# Altium integrated library TI_Logic_Specialty_Logic.IntLib: 2504 symbols (part 43 of 81)
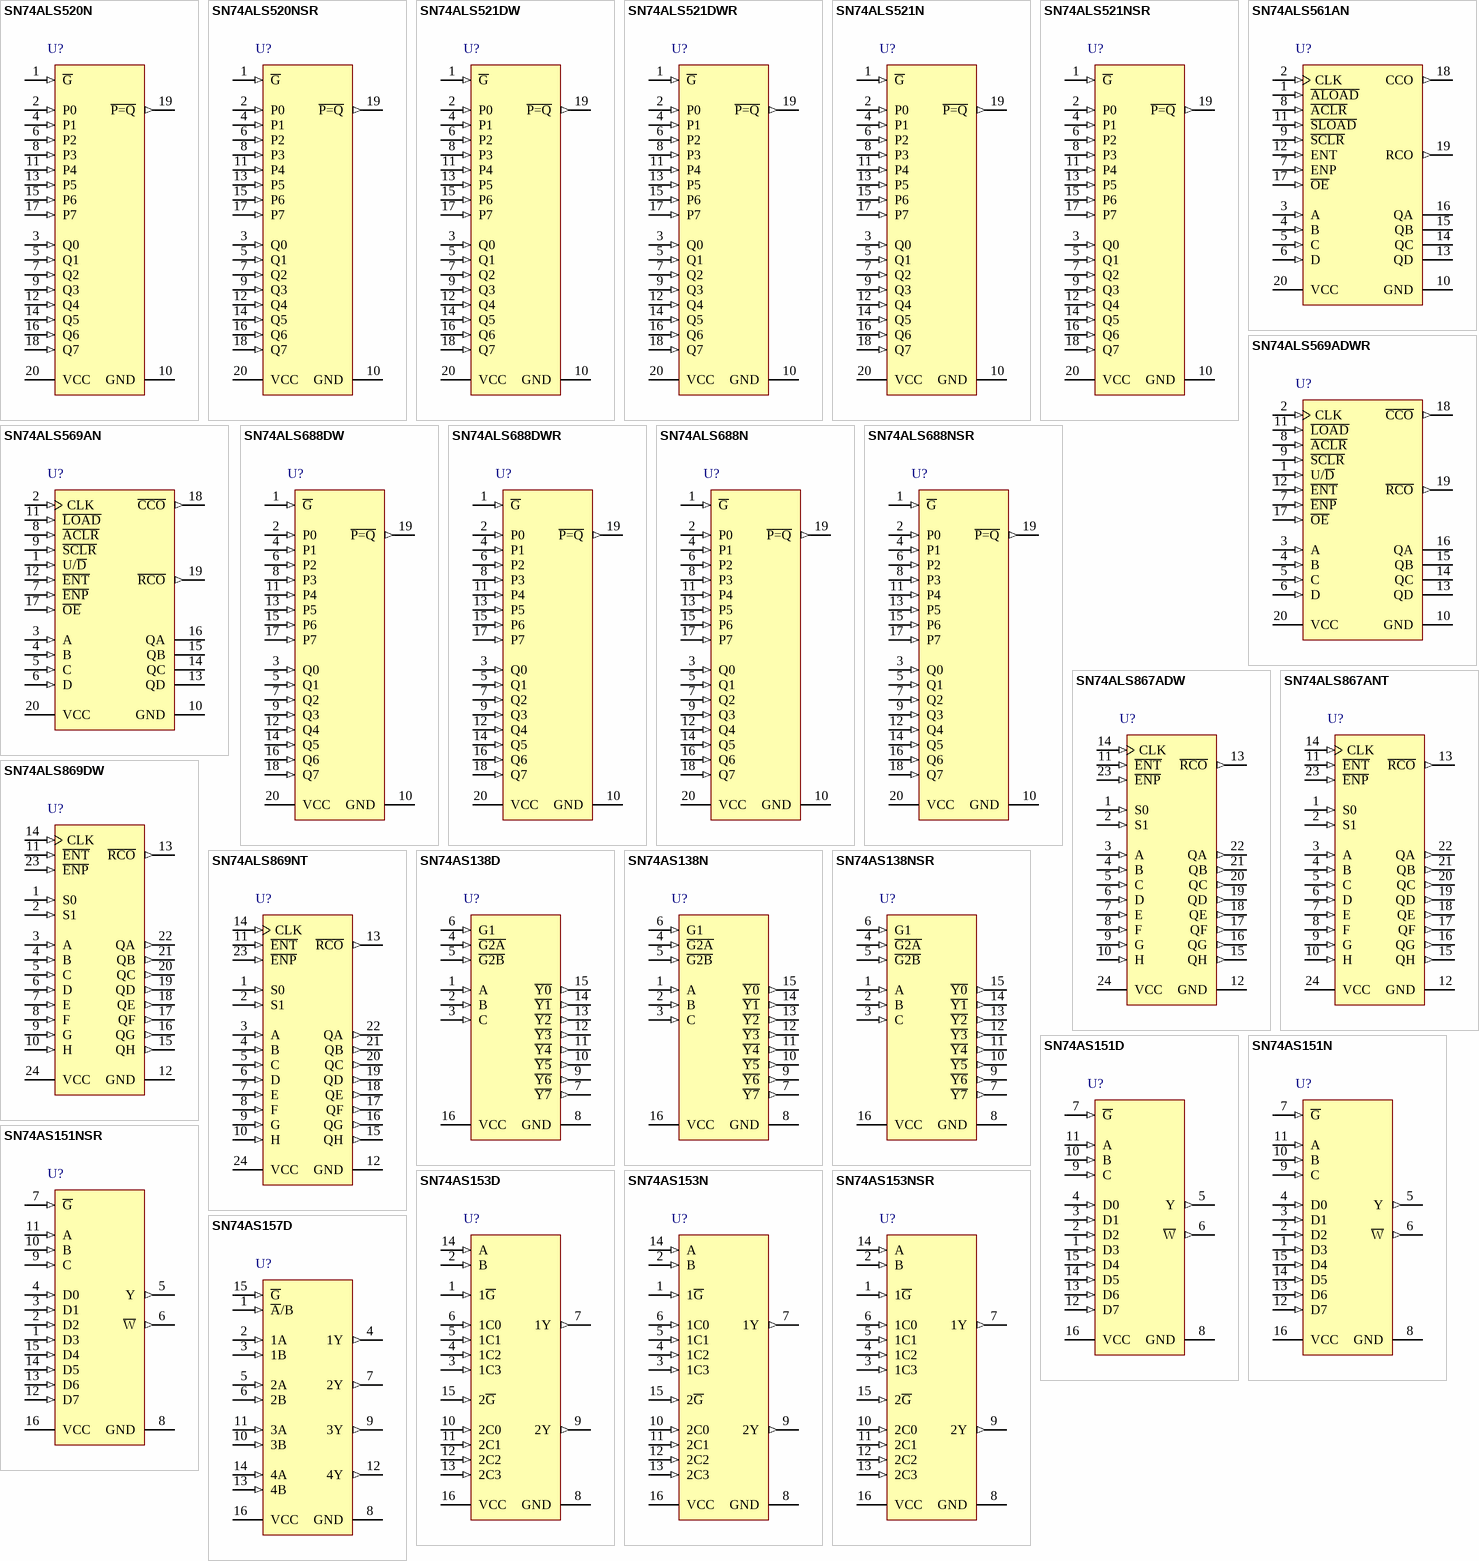
[diagram p146: symbols SN74ALS520N to SN74AS157D]

## SN74ALS688DW
designator U?
8-Bit Identity/Magnitude Comparators (P=Q) with Enable, DW0020A, TUBE; Generic Part Number: SN74ALS688; Manufacturer: Texas Instruments; PartNumber: SN74ALS688DW; VCC(Min)(V): 4.5; VCC(Max)(V): 5.5; Output Type: TTL; ICC @ Nom Voltage(Max)(mA): 19; Bits(#): 8; F @ Nom Voltage(Max)(Mhz): 75; Rating: Catalog; Technology Family: ALS; Schmitt Trigger: No; Output Drive (IOL/IOH)(Max)(mA): 24/-2.6; tpd @ Nom Voltage(Max)(ns): 22; DatasheetVersion: SDAS228A; PackageReference: DW0020A; Supplier 1: Mouser; Supplier Part Number 1: 595-SN74ALS688DW; Supplier 2: Digi-Key; Supplier Part Number 2: 296-5082-5-ND; Input Type: TTL; Operating Temperature Range(C): 0 to 70; Voltage(Nom)(V): 5.5; ComponentLink1Description: Manufacturer URL; ComponentLink1URL: http://www.ti.com/; ComponentLink2Description: Datasheet; ComponentLink2URL: http://www.ti.com/lit/ds/symlink/sn74als688.pdf
footprint DW0020A_N (SOIC, 20-Leads, Body 13x7.6mm, Pitch 1.27mm, IPC Medium Density)
footprint DW0020A_M (SOIC, 20-Leads, Body 13x7.6mm, Pitch 1.27mm, IPC Low Density)
footprint DW0020A_L (SOIC, 20-Leads, Body 13x7.6mm, Pitch 1.27mm, IPC High Density)
pins: 1 ~{G} (in), 2 P0 (in), 3 Q0 (in), 4 P1 (in), 5 Q1 (in), 6 P2 (in), 7 Q2 (in), 8 P3 (in), 9 Q3 (in), 10 GND (power), 11 P4 (in), 12 Q4 (in), 13 P5 (in), 14 Q5 (in), 15 P6 (in), 16 Q6 (in), 17 P7 (in), 18 Q7 (in), 19 ~{P=Q} (out), 20 VCC (power)

## SN74ALS688DWR
designator U?
8-Bit Identity/Magnitude Comparators (P=Q) with Enable, DW0020A, LARGE T&R; Generic Part Number: SN74ALS688; Manufacturer: Texas Instruments; PartNumber: SN74ALS688DWR; VCC(Min)(V): 4.5; VCC(Max)(V): 5.5; Output Type: TTL; ICC @ Nom Voltage(Max)(mA): 19; Bits(#): 8; F @ Nom Voltage(Max)(Mhz): 75; Rating: Catalog; Technology Family: ALS; Schmitt Trigger: No; Output Drive (IOL/IOH)(Max)(mA): 24/-2.6; tpd @ Nom Voltage(Max)(ns): 22; DatasheetVersion: SDAS228A; PackageReference: DW0020A; Supplier 1: Mouser; Supplier Part Number 1: 595-SN74ALS688DWR; Supplier 2: Digi-Key; Supplier Part Number 2: 296-5082-2-ND; Supplier 3: Digi-Key; Supplier Part Number 3: 296-5082-1-ND; Input Type: TTL; Operating Temperature Range(C): 0 to 70; Voltage(Nom)(V): 5.5; ComponentLink1Description: Manufacturer URL; ComponentLink1URL: http://www.ti.com/; ComponentLink2Description: Datasheet; ComponentLink2URL: http://www.ti.com/lit/ds/symlink/sn74als688.pdf
footprint DW0020A_N (SOIC, 20-Leads, Body 13x7.6mm, Pitch 1.27mm, IPC Medium Density)
footprint DW0020A_M (SOIC, 20-Leads, Body 13x7.6mm, Pitch 1.27mm, IPC Low Density)
footprint DW0020A_L (SOIC, 20-Leads, Body 13x7.6mm, Pitch 1.27mm, IPC High Density)
pins: 1 ~{G} (in), 2 P0 (in), 3 Q0 (in), 4 P1 (in), 5 Q1 (in), 6 P2 (in), 7 Q2 (in), 8 P3 (in), 9 Q3 (in), 10 GND (power), 11 P4 (in), 12 Q4 (in), 13 P5 (in), 14 Q5 (in), 15 P6 (in), 16 Q6 (in), 17 P7 (in), 18 Q7 (in), 19 ~{P=Q} (out), 20 VCC (power)

## SN74ALS688N
designator U?
8-Bit Identity/Magnitude Comparators (P=Q) with Enable, N0020A, TUBE; Generic Part Number: SN74ALS688; Manufacturer: Texas Instruments; PartNumber: SN74ALS688N; VCC(Min)(V): 4.5; VCC(Max)(V): 5.5; Output Type: TTL; ICC @ Nom Voltage(Max)(mA): 19; Bits(#): 8; F @ Nom Voltage(Max)(Mhz): 75; Rating: Catalog; Technology Family: ALS; Schmitt Trigger: No; Output Drive (IOL/IOH)(Max)(mA): 24/-2.6; tpd @ Nom Voltage(Max)(ns): 22; DatasheetVersion: SDAS228A; PackageReference: N0020A; Supplier 1: Mouser; Supplier Part Number 1: 595-SN74ALS688N; Supplier 2: Digi-Key; Supplier Part Number 2: 296-14748-5-ND; Input Type: TTL; Operating Temperature Range(C): 0 to 70; Voltage(Nom)(V): 5.5; ComponentLink1Description: Manufacturer URL; ComponentLink1URL: http://www.ti.com/; ComponentLink2Description: Datasheet; ComponentLink2URL: http://www.ti.com/lit/ds/symlink/sn74als688.pdf
footprint N0020A (DIP, 20-Leads, Body 26.9x6.6mm, Pitch 2.54mm)
pins: 1 ~{G} (in), 2 P0 (in), 3 Q0 (in), 4 P1 (in), 5 Q1 (in), 6 P2 (in), 7 Q2 (in), 8 P3 (in), 9 Q3 (in), 10 GND (power), 11 P4 (in), 12 Q4 (in), 13 P5 (in), 14 Q5 (in), 15 P6 (in), 16 Q6 (in), 17 P7 (in), 18 Q7 (in), 19 ~{P=Q} (out), 20 VCC (power)

## SN74ALS688NSR
designator U?
8-Bit Identity/Magnitude Comparators (P=Q) with Enable, NS0020A, LARGE T&R; Generic Part Number: SN74ALS688; Manufacturer: Texas Instruments; PartNumber: SN74ALS688NSR; VCC(Min)(V): 4.5; VCC(Max)(V): 5.5; Output Type: TTL; ICC @ Nom Voltage(Max)(mA): 19; Bits(#): 8; F @ Nom Voltage(Max)(Mhz): 75; Rating: Catalog; Technology Family: ALS; Schmitt Trigger: No; Output Drive (IOL/IOH)(Max)(mA): 24/-2.6; tpd @ Nom Voltage(Max)(ns): 22; DatasheetVersion: SDAS228A; PackageReference: NS0020A; Supplier 1: Mouser; Supplier Part Number 1: 595-SN74ALS688NSR; Supplier 2: Digi-Key; Supplier Part Number 2: 296-29909-2-ND; Supplier 3: Digi-Key; Supplier Part Number 3: 296-29909-1-ND; Supplier 4: Digi-Key; Supplier Part Number 4: 296-29909-6-ND; Input Type: TTL; Operating Temperature Range(C): 0 to 70; Voltage(Nom)(V): 5.5; ComponentLink1Description: Manufacturer URL; ComponentLink1URL: http://www.ti.com/; ComponentLink2Description: Datasheet; ComponentLink2URL: http://www.ti.com/lit/ds/symlink/sn74als688.pdf
footprint NS0020A_N (SOIC,20-Leads,Body 12.9x5.6mm,Pitch 1.27mm,IPC Medium Density)
footprint NS0020A_M (SOIC,20-Leads,Body 12.9x5.6mm,Pitch 1.27mm,IPC Low Density)
footprint NS0020A_L (SOIC,20-Leads,Body 12.9x5.6mm,Pitch 1.27mm,IPC High Density)
pins: 1 ~{G} (in), 2 P0 (in), 3 Q0 (in), 4 P1 (in), 5 Q1 (in), 6 P2 (in), 7 Q2 (in), 8 P3 (in), 9 Q3 (in), 10 GND (power), 11 P4 (in), 12 Q4 (in), 13 P5 (in), 14 Q5 (in), 15 P6 (in), 16 Q6 (in), 17 P7 (in), 18 Q7 (in), 19 ~{P=Q} (out), 20 VCC (power)

## SN74ALS867ADW
designator U?
Synchronous 8-Bit Up/Down Binary Counters, DW0024A, TUBE; Generic Part Number: SN74ALS867A; Manufacturer: Texas Instruments; PartNumber: SN74ALS867ADW; VCC(Min)(V): 4.5; VCC(Max)(V): 5.5; Output Type: CMOS; Inputs: 1; ICC @ Nom Voltage(Max)(mA): 45; Input Type: TTL; Bits(#): 8; F @ Nom Voltage(Max)(Mhz): 75; Rating: Catalog; Technology Family: ALS; Voltage(Nom)(V): 5; Schmitt Trigger: No; Output Drive (IOL/IOH)(Max)(mA): 8/-0.4; tpd @ Nom Voltage(Max)(ns): 16; DatasheetVersion: SDAS115C; PackageReference: DW0024A; Supplier 1: Mouser; Supplier Part Number 1: 595-SN74ALS867ADW; Supplier 2: Digi-Key; Supplier Part Number 2: 296-5088-5-ND; Function: Counter; Operating Temperature Range(C): 0 to 70; Type: Binary; Code_JEDEC: MS-013; ComponentLink1Description: Manufacturer URL; ComponentLink1URL: http://www.ti.com/; ComponentLink2Description: Datasheet; ComponentLink2URL: http://www.ti.com/lit/ds/symlink/sn74als867a.pdf; ComponentLink3Description: Package Specification; ComponentLink3URL: http://www.ti.com/lit/ml/mpds174a/mpds174a.pdf
footprint DW0024A_N (SOIC, 24-Leads, Body 15.6x7.6mm, Pitch 1.27mm, IPC Medium Density)
footprint DW0024A_M (SOIC, 24-Leads, Body 15.6x7.6mm, Pitch 1.27mm, IPC Low Density)
footprint DW0024A_L (SOIC, 24-Leads, Body 15.6x7.6mm, Pitch 1.27mm, IPC High Density)
pins: 1 S0 (in), 2 S1 (in), 3 A (in), 4 B (in), 5 C (in), 6 D (in), 7 E (in), 8 F (in), 9 G (in), 10 H (in), 11 ~{ENT} (in), 12 GND (power), 13 ~{RCO} (out), 14 CLK (in), 15 QH (out), 16 QG (out), 17 QF (out), 18 QE (out), 19 QD (out), 20 QC (out), 21 QB (out), 22 QA (out), 23 ~{ENP} (in), 24 VCC (power)

## SN74ALS867ANT
designator U?
Synchronous 8-Bit Up/Down Binary Counters, NT0024A, TUBE; Generic Part Number: SN74ALS867A; Manufacturer: Texas Instruments; PartNumber: SN74ALS867ANT; VCC(Min)(V): 4.5; VCC(Max)(V): 5.5; Output Type: CMOS; Inputs: 1; ICC @ Nom Voltage(Max)(mA): 45; Input Type: TTL; Bits(#): 8; F @ Nom Voltage(Max)(Mhz): 75; Rating: Catalog; Technology Family: ALS; Voltage(Nom)(V): 5; Schmitt Trigger: No; Output Drive (IOL/IOH)(Max)(mA): 8/-0.4; tpd @ Nom Voltage(Max)(ns): 16; DatasheetVersion: SDAS115C; PackageReference: NT0024A; Supplier 1: Mouser; Supplier Part Number 1: 595-SN74ALS867ANT; Supplier 2: Digi-Key; Supplier Part Number 2: 296-5089-5-ND; Function: Counter; Operating Temperature Range(C): 0 to 70; Type: Binary; ComponentLink1Description: Manufacturer URL; ComponentLink1URL: http://www.ti.com/; ComponentLink2Description: Datasheet; ComponentLink2URL: http://www.ti.com/lit/ds/symlink/sn74als867a.pdf; ComponentLink3Description: Package Specification; ComponentLink3URL: http://www.ti.com/lit/ml/mpdi004a/mpdi004a.pdf
footprint NT0024A (DIP, 24-Leads, Body 32.05x7.1mm, Pitch 2.54mm)
pins: 1 S0 (in), 2 S1 (in), 3 A (in), 4 B (in), 5 C (in), 6 D (in), 7 E (in), 8 F (in), 9 G (in), 10 H (in), 11 ~{ENT} (in), 12 GND (power), 13 ~{RCO} (out), 14 CLK (in), 15 QH (out), 16 QG (out), 17 QF (out), 18 QE (out), 19 QD (out), 20 QC (out), 21 QB (out), 22 QA (out), 23 ~{ENP} (in), 24 VCC (power)

## SN74ALS869DW
designator U?
Synchronous 8-Bit Up/Down Binary Counters, DW0024A, TUBE; Generic Part Number: SN74ALS869; Manufacturer: Texas Instruments; PartNumber: SN74ALS869DW; VCC(Min)(V): 4.5; VCC(Max)(V): 5.5; Output Type: CMOS; Inputs: 1; ICC @ Nom Voltage(Max)(mA): 45; Input Type: TTL; Bits(#): 8; F @ Nom Voltage(Max)(Mhz): 75; Rating: Catalog; Technology Family: ALS; Voltage(Nom)(V): 5; Schmitt Trigger: No; Output Drive (IOL/IOH)(Max)(mA): 8/-0.4; tpd @ Nom Voltage(Max)(ns): 16; DatasheetVersion: SDAS115C; PackageReference: DW0024A; Supplier 1: Mouser; Supplier Part Number 1: 595-SN74ALS869DW; Supplier 2: Digi-Key; Supplier Part Number 2: 296-5090-5-ND; Function: Counter; Operating Temperature Range(C): 0 to 70; Type: Binary; Code_JEDEC: MS-013; ComponentLink1Description: Manufacturer URL; ComponentLink1URL: http://www.ti.com/; ComponentLink2Description: Datasheet; ComponentLink2URL: http://www.ti.com/lit/ds/symlink/sn74als869.pdf; ComponentLink3Description: Package Specification; ComponentLink3URL: http://www.ti.com/lit/ml/mpds174a/mpds174a.pdf
footprint DW0024A_N (SOIC, 24-Leads, Body 15.6x7.6mm, Pitch 1.27mm, IPC Medium Density)
footprint DW0024A_M (SOIC, 24-Leads, Body 15.6x7.6mm, Pitch 1.27mm, IPC Low Density)
footprint DW0024A_L (SOIC, 24-Leads, Body 15.6x7.6mm, Pitch 1.27mm, IPC High Density)
pins: 1 S0 (in), 2 S1 (in), 3 A (in), 4 B (in), 5 C (in), 6 D (in), 7 E (in), 8 F (in), 9 G (in), 10 H (in), 11 ~{ENT} (in), 12 GND (power), 13 ~{RCO} (out), 14 CLK (in), 15 QH (out), 16 QG (out), 17 QF (out), 18 QE (out), 19 QD (out), 20 QC (out), 21 QB (out), 22 QA (out), 23 ~{ENP} (in), 24 VCC (power)

## SN74ALS869NT
designator U?
Synchronous 8-Bit Up/Down Binary Counters, NT0024A, TUBE; Generic Part Number: SN74ALS869; Manufacturer: Texas Instruments; PartNumber: SN74ALS869NT; VCC(Min)(V): 4.5; VCC(Max)(V): 5.5; Output Type: CMOS; Inputs: 1; ICC @ Nom Voltage(Max)(mA): 45; Input Type: TTL; Bits(#): 8; F @ Nom Voltage(Max)(Mhz): 75; Rating: Catalog; Technology Family: ALS; Voltage(Nom)(V): 5; Schmitt Trigger: No; Output Drive (IOL/IOH)(Max)(mA): 8/-0.4; tpd @ Nom Voltage(Max)(ns): 16; DatasheetVersion: SDAS115C; PackageReference: NT0024A; Supplier 1: Mouser; Supplier Part Number 1: 595-SN74ALS869NT; Supplier 2: Digi-Key; Supplier Part Number 2: 296-5091-5-ND; Function: Counter; Operating Temperature Range(C): 0 to 70; Type: Binary; ComponentLink1Description: Manufacturer URL; ComponentLink1URL: http://www.ti.com/; ComponentLink2Description: Datasheet; ComponentLink2URL: http://www.ti.com/lit/ds/symlink/sn74als869.pdf; ComponentLink3Description: Package Specification; ComponentLink3URL: http://www.ti.com/lit/ml/mpdi004a/mpdi004a.pdf
footprint NT0024A (DIP, 24-Leads, Body 32.05x7.1mm, Pitch 2.54mm)
pins: 1 S0 (in), 2 S1 (in), 3 A (in), 4 B (in), 5 C (in), 6 D (in), 7 E (in), 8 F (in), 9 G (in), 10 H (in), 11 ~{ENT} (in), 12 GND (power), 13 ~{RCO} (out), 14 CLK (in), 15 QH (out), 16 QG (out), 17 QF (out), 18 QE (out), 19 QD (out), 20 QC (out), 21 QB (out), 22 QA (out), 23 ~{ENP} (in), 24 VCC (power)

## SN74AS138D
designator U?
3-Line To 8-Line Decoders/Demultiplexers, D0016A, TUBE; Generic Part Number: SN74AS138; Manufacturer: Texas Instruments; PartNumber: SN74AS138D; VCC(Min)(V): 4.5; VCC(Max)(V): 5.5; Output Type: TTL; Function: Decoder/Demultiplexer; ICC @ Nom Voltage(Max)(mA): 20; Bits(#): 8; F @ Nom Voltage(Max)(Mhz): 125; Configuration: 3：8; Channels(#): 1; Rating: Catalog; Technology Family: AS; Voltage(Nom)(V): 5; Schmitt Trigger: No; Output Drive (IOL/IOH)(Max)(mA): 20/-2; tpd @ Nom Voltage(Max)(ns): 22; DatasheetVersion: SDAS055E; PackageReference: D0016A; Supplier 1: Mouser; Supplier Part Number 1: 595-SN74AS138D; Supplier 2: Digi-Key; Supplier Part Number 2: SN74AS138D-ND; Input Type: TTL; Operating Temperature Range(C): 0 to 70; Type: Standard; Code_JEDEC: MS-012 variation AC; ComponentLink1Description: Manufacturer URL; ComponentLink1URL: http://www.ti.com/; ComponentLink2Description: Datasheet; ComponentLink2URL: http://www.ti.com/lit/ds/symlink/sn74as138.pdf; ComponentLink3Description: Package Specification; ComponentLink3URL: http://www.ti.com/lit/ml/mpds178g/mpds178g.pdf
footprint D0016A_N (SOIC, 16-Leads, Body 10x4mm, Pitch 1.27mm, IPC Medium Density)
footprint D0016A_M (SOIC, 16-Leads, Body 10x4mm, Pitch 1.27mm, IPC Low Density)
footprint D0016A_L (SOIC, 16-Leads, Body 10x4mm, Pitch 1.27mm, IPC High Density)
pins: 1 A (in), 2 B (in), 3 C (in), 4 ~{G2A} (in), 5 ~{G2B} (in), 6 G1 (in), 7 ~{Y7} (out), 8 GND (power), 9 ~{Y6} (out), 10 ~{Y5} (out), 11 ~{Y4} (out), 12 ~{Y3} (out), 13 ~{Y2} (out), 14 ~{Y1} (out), 15 ~{Y0} (out), 16 VCC (power)

## SN74AS138N
designator U?
3-Line To 8-Line Decoders/Demultiplexers, N0016A, TUBE; Generic Part Number: SN74AS138; Manufacturer: Texas Instruments; PartNumber: SN74AS138N; VCC(Min)(V): 4.5; VCC(Max)(V): 5.5; Output Type: TTL; Function: Decoder/Demultiplexer; ICC @ Nom Voltage(Max)(mA): 20; Bits(#): 8; F @ Nom Voltage(Max)(Mhz): 125; Configuration: 3：8; Channels(#): 1; Rating: Catalog; Technology Family: AS; Voltage(Nom)(V): 5; Schmitt Trigger: No; Output Drive (IOL/IOH)(Max)(mA): 20/-2; tpd @ Nom Voltage(Max)(ns): 22; DatasheetVersion: SDAS055E; PackageReference: N0016A; Supplier 1: Mouser; Supplier Part Number 1: 595-SN74AS138N; Supplier 2: Digi-Key; Supplier Part Number 2: 296-14793-5-ND; Input Type: TTL; Operating Temperature Range(C): 0 to 70; Type: Standard; Code_JEDEC: MS-001; ComponentLink1Description: Manufacturer URL; ComponentLink1URL: http://www.ti.com/; ComponentLink2Description: Datasheet; ComponentLink2URL: http://www.ti.com/lit/ds/symlink/sn74as138.pdf; ComponentLink3Description: Package Specification; ComponentLink3URL: http://www.ti.com/lit/ml/mpdi002c/mpdi002c.pdf
footprint N0016A (DIP, 16-Leads, Body 19.7x6.6mm, Pitch 2.54mm)
pins: 1 A (in), 2 B (in), 3 C (in), 4 ~{G2A} (in), 5 ~{G2B} (in), 6 G1 (in), 7 ~{Y7} (out), 8 GND (power), 9 ~{Y6} (out), 10 ~{Y5} (out), 11 ~{Y4} (out), 12 ~{Y3} (out), 13 ~{Y2} (out), 14 ~{Y1} (out), 15 ~{Y0} (out), 16 VCC (power)

## SN74AS138NSR
designator U?
3-Line To 8-Line Decoders/Demultiplexers, NS0016A, LARGE T&R; Generic Part Number: SN74AS138; Manufacturer: Texas Instruments; PartNumber: SN74AS138NSR; VCC(Min)(V): 4.5; VCC(Max)(V): 5.5; Output Type: TTL; Function: Decoder/Demultiplexer; ICC @ Nom Voltage(Max)(mA): 20; Bits(#): 8; F @ Nom Voltage(Max)(Mhz): 125; Configuration: 3：8; Channels(#): 1; Rating: Catalog; Technology Family: AS; Voltage(Nom)(V): 5; Schmitt Trigger: No; Output Drive (IOL/IOH)(Max)(mA): 20/-2; tpd @ Nom Voltage(Max)(ns): 22; DatasheetVersion: SDAS055E; PackageReference: NS0016A; Supplier 1: Mouser; Supplier Part Number 1: 595-SN74AS138NSR; Supplier 2: Digi-Key; Supplier Part Number 2: 296-28800-2-ND; Supplier 3: Digi-Key; Supplier Part Number 3: 296-28800-1-ND; Supplier 4: Digi-Key; Supplier Part Number 4: 296-28800-6-ND; Input Type: TTL; Operating Temperature Range(C): 0 to 70; Type: Standard; ComponentLink1Description: Manufacturer URL; ComponentLink1URL: http://www.ti.com/; ComponentLink2Description: Datasheet; ComponentLink2URL: http://www.ti.com/lit/ds/symlink/sn74as138.pdf; ComponentLink3Description: Package Specification; ComponentLink3URL: http://www.ti.com/lit/ml/msop002a/msop002a.pdf
footprint NS0016A_N (SOIC,16-Leads,Body 10.5x5.6mm,Pitch 1.27mm,IPC Medium Density)
footprint NS0016A_M (SOIC,16-Leads,Body 10.5x5.6mm,Pitch 1.27mm,IPC Low Density)
footprint NS0016A_L (SOIC,16-Leads,Body 10.5x5.6mm,Pitch 1.27mm,IPC High Density)
pins: 1 A (in), 2 B (in), 3 C (in), 4 ~{G2A} (in), 5 ~{G2B} (in), 6 G1 (in), 7 ~{Y7} (out), 8 GND (power), 9 ~{Y6} (out), 10 ~{Y5} (out), 11 ~{Y4} (out), 12 ~{Y3} (out), 13 ~{Y2} (out), 14 ~{Y1} (out), 15 ~{Y0} (out), 16 VCC (power)

## SN74AS151D
designator U?
1-of-8 Data Selectors/Multiplexers, D0016A, TUBE; Generic Part Number: SN74AS151; Manufacturer: Texas Instruments; PartNumber: SN74AS151D; VCC(Min)(V): 4.5; VCC(Max)(V): 5.5; Output Type: TTL; Function: Encoder/Multiplexer; ICC @ Nom Voltage(Max)(mA): 30; Bits(#): 8; F @ Nom Voltage(Max)(Mhz): 125; Configuration: 8：1; Channels(#): 1; Rating: Catalog; Technology Family: AS; Voltage(Nom)(V): 5; Schmitt Trigger: No; Output Drive (IOL/IOH)(Max)(mA): 48/-15; tpd @ Nom Voltage(Max)(ns): 24; DatasheetVersion: SDAS205A; PackageReference: D0016A; Supplier 1: Mouser; Supplier Part Number 1: 595-SN74AS151D; Supplier 2: Digi-Key; Supplier Part Number 2: 296-33794-5-ND; Input Type: TTL; Operating Temperature Range(C): 0 to 70; Type: Standard; Code_JEDEC: MS-012 variation AC; ComponentLink1Description: Manufacturer URL; ComponentLink1URL: http://www.ti.com/; ComponentLink2Description: Datasheet; ComponentLink2URL: http://www.ti.com/lit/ds/symlink/sn74as151.pdf; ComponentLink3Description: Package Specification; ComponentLink3URL: http://www.ti.com/lit/ml/mpds178g/mpds178g.pdf
footprint D0016A_N (SOIC, 16-Leads, Body 10x4mm, Pitch 1.27mm, IPC Medium Density)
footprint D0016A_M (SOIC, 16-Leads, Body 10x4mm, Pitch 1.27mm, IPC Low Density)
footprint D0016A_L (SOIC, 16-Leads, Body 10x4mm, Pitch 1.27mm, IPC High Density)
pins: 1 D3 (in), 2 D2 (in), 3 D1 (in), 4 D0 (in), 5 Y (out), 6 ~{W} (out), 7 ~{G} (in), 8 GND (power), 9 C (in), 10 B (in), 11 A (in), 12 D7 (in), 13 D6 (in), 14 D5 (in), 15 D4 (in), 16 VCC (power)

## SN74AS151N
designator U?
1-of-8 Data Selectors/Multiplexers, N0016A, TUBE; Generic Part Number: SN74AS151; Manufacturer: Texas Instruments; PartNumber: SN74AS151N; VCC(Min)(V): 4.5; VCC(Max)(V): 5.5; Output Type: TTL; Function: Encoder/Multiplexer; ICC @ Nom Voltage(Max)(mA): 30; Bits(#): 8; F @ Nom Voltage(Max)(Mhz): 125; Configuration: 8：1; Channels(#): 1; Rating: Catalog; Technology Family: AS; Voltage(Nom)(V): 5; Schmitt Trigger: No; Output Drive (IOL/IOH)(Max)(mA): 48/-15; tpd @ Nom Voltage(Max)(ns): 24; DatasheetVersion: SDAS205A; PackageReference: N0016A; Supplier 1: Mouser; Supplier Part Number 1: 595-SN74AS151N; Supplier 2: Digi-Key; Supplier Part Number 2: 296-33795-5-ND; Input Type: TTL; Operating Temperature Range(C): 0 to 70; Type: Standard; Code_JEDEC: MS-001; ComponentLink1Description: Manufacturer URL; ComponentLink1URL: http://www.ti.com/; ComponentLink2Description: Datasheet; ComponentLink2URL: http://www.ti.com/lit/ds/symlink/sn74as151.pdf; ComponentLink3Description: Package Specification; ComponentLink3URL: http://www.ti.com/lit/ml/mpdi002c/mpdi002c.pdf
footprint N0016A (DIP, 16-Leads, Body 19.7x6.6mm, Pitch 2.54mm)
pins: 1 D3 (in), 2 D2 (in), 3 D1 (in), 4 D0 (in), 5 Y (out), 6 ~{W} (out), 7 ~{G} (in), 8 GND (power), 9 C (in), 10 B (in), 11 A (in), 12 D7 (in), 13 D6 (in), 14 D5 (in), 15 D4 (in), 16 VCC (power)

## SN74AS151NSR
designator U?
1-of-8 Data Selectors/Multiplexers, NS0016A, LARGE T&R; Generic Part Number: SN74AS151; Manufacturer: Texas Instruments; PartNumber: SN74AS151NSR; VCC(Min)(V): 4.5; VCC(Max)(V): 5.5; Output Type: TTL; Function: Encoder/Multiplexer; ICC @ Nom Voltage(Max)(mA): 30; Bits(#): 8; F @ Nom Voltage(Max)(Mhz): 125; Configuration: 8：1; Channels(#): 1; Rating: Catalog; Technology Family: AS; Voltage(Nom)(V): 5; Schmitt Trigger: No; Output Drive (IOL/IOH)(Max)(mA): 48/-15; tpd @ Nom Voltage(Max)(ns): 24; DatasheetVersion: SDAS205A; PackageReference: NS0016A; Supplier 1: Mouser; Supplier Part Number 1: 595-SN74AS151NSR; Supplier 2: Digi-Key; Supplier Part Number 2: 296-13161-2-ND; Supplier 3: Digi-Key; Supplier Part Number 3: 296-13161-1-ND; Supplier 4: Digi-Key; Supplier Part Number 4: 296-13161-6-ND; Input Type: TTL; Operating Temperature Range(C): 0 to 70; Type: Standard; ComponentLink1Description: Manufacturer URL; ComponentLink1URL: http://www.ti.com/; ComponentLink2Description: Datasheet; ComponentLink2URL: http://www.ti.com/lit/ds/symlink/sn74as151.pdf; ComponentLink3Description: Package Specification; ComponentLink3URL: http://www.ti.com/lit/ml/msop002a/msop002a.pdf
footprint NS0016A_N (SOIC,16-Leads,Body 10.5x5.6mm,Pitch 1.27mm,IPC Medium Density)
footprint NS0016A_M (SOIC,16-Leads,Body 10.5x5.6mm,Pitch 1.27mm,IPC Low Density)
footprint NS0016A_L (SOIC,16-Leads,Body 10.5x5.6mm,Pitch 1.27mm,IPC High Density)
pins: 1 D3 (in), 2 D2 (in), 3 D1 (in), 4 D0 (in), 5 Y (out), 6 ~{W} (out), 7 ~{G} (in), 8 GND (power), 9 C (in), 10 B (in), 11 A (in), 12 D7 (in), 13 D6 (in), 14 D5 (in), 15 D4 (in), 16 VCC (power)

## SN74AS153D
designator U?
Dual 1-of-4 Data Selectors/Multiplexers, D0016A, TUBE; Generic Part Number: SN74AS153; Manufacturer: Texas Instruments; PartNumber: SN74AS153D; VCC(Min)(V): 4.5; VCC(Max)(V): 5.5; Output Type: TTL; Function: Encoder/Multiplexer; ICC @ Nom Voltage(Max)(mA): 33; Bits(#): 4; F @ Nom Voltage(Max)(Mhz): 125; Configuration: 4：1; Channels(#): 2; Rating: Catalog; Technology Family: AS; Voltage(Nom)(V): 5; Schmitt Trigger: No; Output Drive (IOL/IOH)(Max)(mA): 48/-15; tpd @ Nom Voltage(Max)(ns): 21; DatasheetVersion: SDAS206A; PackageReference: D0016A; Supplier 1: Mouser; Supplier Part Number 1: 595-SN74AS153D; Supplier 2: Digi-Key; Supplier Part Number 2: 296-6335-5-ND; Input Type: TTL; Operating Temperature Range(C): 0 to 70; Type: Standard; Code_JEDEC: MS-012 variation AC; ComponentLink1Description: Manufacturer URL; ComponentLink1URL: http://www.ti.com/; ComponentLink2Description: Datasheet; ComponentLink2URL: http://www.ti.com/lit/ds/symlink/sn74as153.pdf; ComponentLink3Description: Package Specification; ComponentLink3URL: http://www.ti.com/lit/ml/mpds178g/mpds178g.pdf
footprint D0016A_N (SOIC, 16-Leads, Body 10x4mm, Pitch 1.27mm, IPC Medium Density)
footprint D0016A_M (SOIC, 16-Leads, Body 10x4mm, Pitch 1.27mm, IPC Low Density)
footprint D0016A_L (SOIC, 16-Leads, Body 10x4mm, Pitch 1.27mm, IPC High Density)
pins: 1 1~{G} (in), 2 B (in), 3 1C3 (in), 4 1C2 (in), 5 1C1 (in), 6 1C0 (in), 7 1Y (out), 8 GND (power), 9 2Y (out), 10 2C0 (in), 11 2C1 (in), 12 2C2 (in), 13 2C3 (in), 14 A (in), 15 2~{G} (in), 16 VCC (power)

## SN74AS153N
designator U?
Dual 1-of-4 Data Selectors/Multiplexers, N0016A, TUBE; Generic Part Number: SN74AS153; Manufacturer: Texas Instruments; PartNumber: SN74AS153N; VCC(Min)(V): 4.5; VCC(Max)(V): 5.5; Output Type: TTL; Function: Encoder/Multiplexer; ICC @ Nom Voltage(Max)(mA): 33; Bits(#): 4; F @ Nom Voltage(Max)(Mhz): 125; Configuration: 4：1; Channels(#): 2; Rating: Catalog; Technology Family: AS; Voltage(Nom)(V): 5; Schmitt Trigger: No; Output Drive (IOL/IOH)(Max)(mA): 48/-15; tpd @ Nom Voltage(Max)(ns): 21; DatasheetVersion: SDAS206A; PackageReference: N0016A; Supplier 1: Mouser; Supplier Part Number 1: 595-SN74AS153N; Supplier 2: Digi-Key; Supplier Part Number 2: SN74AS153N-ND; Input Type: TTL; Operating Temperature Range(C): 0 to 70; Type: Standard; Code_JEDEC: MS-001; ComponentLink1Description: Manufacturer URL; ComponentLink1URL: http://www.ti.com/; ComponentLink2Description: Datasheet; ComponentLink2URL: http://www.ti.com/lit/ds/symlink/sn74as153.pdf; ComponentLink3Description: Package Specification; ComponentLink3URL: http://www.ti.com/lit/ml/mpdi002c/mpdi002c.pdf
footprint N0016A (DIP, 16-Leads, Body 19.7x6.6mm, Pitch 2.54mm)
pins: 1 1~{G} (in), 2 B (in), 3 1C3 (in), 4 1C2 (in), 5 1C1 (in), 6 1C0 (in), 7 1Y (out), 8 GND (power), 9 2Y (out), 10 2C0 (in), 11 2C1 (in), 12 2C2 (in), 13 2C3 (in), 14 A (in), 15 2~{G} (in), 16 VCC (power)

## SN74AS153NSR
designator U?
Dual 1-of-4 Data Selectors/Multiplexers, NS0016A, LARGE T&R; Generic Part Number: SN74AS153; Manufacturer: Texas Instruments; PartNumber: SN74AS153NSR; VCC(Min)(V): 4.5; VCC(Max)(V): 5.5; Output Type: TTL; Function: Encoder/Multiplexer; ICC @ Nom Voltage(Max)(mA): 33; Bits(#): 4; F @ Nom Voltage(Max)(Mhz): 125; Configuration: 4：1; Channels(#): 2; Rating: Catalog; Technology Family: AS; Voltage(Nom)(V): 5; Schmitt Trigger: No; Output Drive (IOL/IOH)(Max)(mA): 48/-15; tpd @ Nom Voltage(Max)(ns): 21; DatasheetVersion: SDAS206A; PackageReference: NS0016A; Supplier 1: Mouser; Supplier Part Number 1: 595-SN74AS153NSR; Supplier 2: Digi-Key; Supplier Part Number 2: 296-28500-2-ND; Supplier 3: Digi-Key; Supplier Part Number 3: 296-28500-1-ND; Supplier 4: Digi-Key; Supplier Part Number 4: 296-28500-6-ND; Input Type: TTL; Operating Temperature Range(C): 0 to 70; Type: Standard; ComponentLink1Description: Manufacturer URL; ComponentLink1URL: http://www.ti.com/; ComponentLink2Description: Datasheet; ComponentLink2URL: http://www.ti.com/lit/ds/symlink/sn74as153.pdf; ComponentLink3Description: Package Specification; ComponentLink3URL: http://www.ti.com/lit/ml/msop002a/msop002a.pdf
footprint NS0016A_N (SOIC,16-Leads,Body 10.5x5.6mm,Pitch 1.27mm,IPC Medium Density)
footprint NS0016A_M (SOIC,16-Leads,Body 10.5x5.6mm,Pitch 1.27mm,IPC Low Density)
footprint NS0016A_L (SOIC,16-Leads,Body 10.5x5.6mm,Pitch 1.27mm,IPC High Density)
pins: 1 1~{G} (in), 2 B (in), 3 1C3 (in), 4 1C2 (in), 5 1C1 (in), 6 1C0 (in), 7 1Y (out), 8 GND (power), 9 2Y (out), 10 2C0 (in), 11 2C1 (in), 12 2C2 (in), 13 2C3 (in), 14 A (in), 15 2~{G} (in), 16 VCC (power)

## SN74AS157D
designator U?
Quadruple 1-of-2 Data Selectors/Multiplexers, D0016A, TUBE; Generic Part Number: SN74AS157; Manufacturer: Texas Instruments; PartNumber: SN74AS157D; VCC(Min)(V): 4.5; VCC(Max)(V): 5.5; Output Type: TTL; Function: Encoder/Multiplexer; ICC @ Nom Voltage(Max)(mA): 28; Bits(#): 2; F @ Nom Voltage(Max)(Mhz): 125; Configuration: 2：1; Channels(#): 4; Rating: Catalog; Technology Family: AS; Voltage(Nom)(V): 5; Schmitt Trigger: No; Output Drive (IOL/IOH)(Max)(mA): 20/-2; tpd @ Nom Voltage(Max)(ns): 14; DatasheetVersion: SDAS081C; PackageReference: D0016A; Supplier 1: Mouser; Supplier Part Number 1: 595-SN74AS157D; Supplier 2: Digi-Key; Supplier Part Number 2: 296-33796-5-ND; Input Type: TTL; Operating Temperature Range(C): 0 to 70; Type: Standard; Code_JEDEC: MS-012 variation AC; ComponentLink1Description: Manufacturer URL; ComponentLink1URL: http://www.ti.com/; ComponentLink2Description: Datasheet; ComponentLink2URL: http://www.ti.com/lit/ds/symlink/sn74as157.pdf; ComponentLink3Description: Package Specification; ComponentLink3URL: http://www.ti.com/lit/ml/mpds178g/mpds178g.pdf
footprint D0016A_N (SOIC, 16-Leads, Body 10x4mm, Pitch 1.27mm, IPC Medium Density)
footprint D0016A_M (SOIC, 16-Leads, Body 10x4mm, Pitch 1.27mm, IPC Low Density)
footprint D0016A_L (SOIC, 16-Leads, Body 10x4mm, Pitch 1.27mm, IPC High Density)
pins: 1 ~{A}/B (in), 2 1A (in), 3 1B (in), 4 1Y (out), 5 2A (in), 6 2B (in), 7 2Y (out), 8 GND (power), 9 3Y (out), 10 3B (in), 11 3A (in), 12 4Y (out), 13 4B (in), 14 4A (in), 15 ~{G} (in), 16 VCC (power)

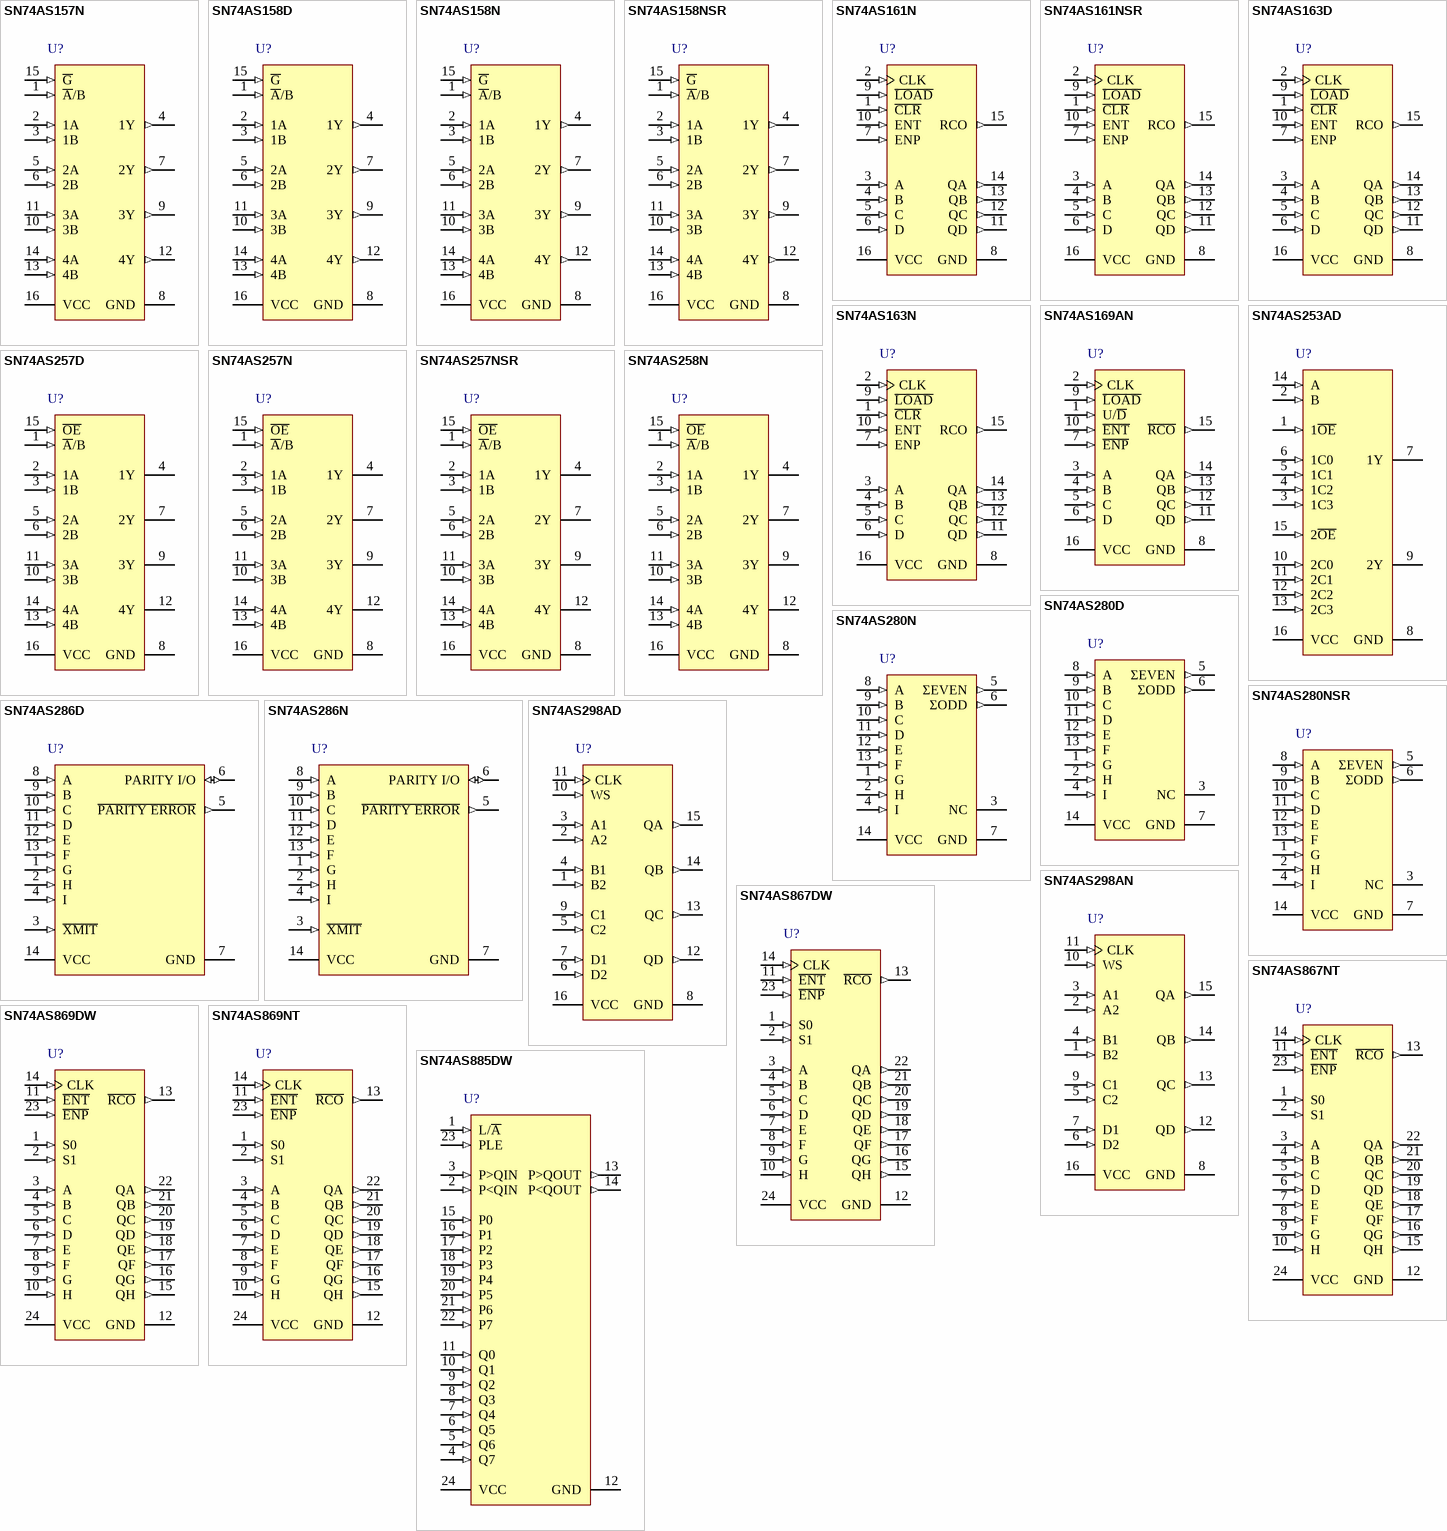
[diagram p56: symbols SN74AS157N to SN74AS885DW]

## SN74AS157N
designator U?
Quadruple 1-of-2 Data Selectors/Multiplexers, N0016A, TUBE; Generic Part Number: SN74AS157; Manufacturer: Texas Instruments; PartNumber: SN74AS157N; VCC(Min)(V): 4.5; VCC(Max)(V): 5.5; Output Type: TTL; Function: Encoder/Multiplexer; ICC @ Nom Voltage(Max)(mA): 28; Bits(#): 2; F @ Nom Voltage(Max)(Mhz): 125; Configuration: 2：1; Channels(#): 4; Rating: Catalog; Technology Family: AS; Voltage(Nom)(V): 5; Schmitt Trigger: No; Output Drive (IOL/IOH)(Max)(mA): 20/-2; tpd @ Nom Voltage(Max)(ns): 14; DatasheetVersion: SDAS081C; PackageReference: N0016A; Supplier 1: Mouser; Supplier Part Number 1: 595-SN74AS157N; Supplier 2: Digi-Key; Supplier Part Number 2: SN74AS157N-ND; Input Type: TTL; Operating Temperature Range(C): 0 to 70; Type: Standard; Code_JEDEC: MS-001; ComponentLink1Description: Manufacturer URL; ComponentLink1URL: http://www.ti.com/; ComponentLink2Description: Datasheet; ComponentLink2URL: http://www.ti.com/lit/ds/symlink/sn74as157.pdf; ComponentLink3Description: Package Specification; ComponentLink3URL: http://www.ti.com/lit/ml/mpdi002c/mpdi002c.pdf
footprint N0016A (DIP, 16-Leads, Body 19.7x6.6mm, Pitch 2.54mm)
pins: 1 ~{A}/B (in), 2 1A (in), 3 1B (in), 4 1Y (out), 5 2A (in), 6 2B (in), 7 2Y (out), 8 GND (power), 9 3Y (out), 10 3B (in), 11 3A (in), 12 4Y (out), 13 4B (in), 14 4A (in), 15 ~{G} (in), 16 VCC (power)

## SN74AS158D
designator U?
Quadruple 1-of-2 Data Selectors/Multiplexers, D0016A, TUBE; Generic Part Number: SN74AS158; Manufacturer: Texas Instruments; PartNumber: SN74AS158D; VCC(Min)(V): 4.5; VCC(Max)(V): 5.5; Output Type: TTL; Function: Encoder/Multiplexer; ICC @ Nom Voltage(Max)(mA): 22.5; Bits(#): 2; F @ Nom Voltage(Max)(Mhz): 125; Configuration: 2：1; Channels(#): 4; Rating: Catalog; Technology Family: AS; Voltage(Nom)(V): 5; Schmitt Trigger: No; Output Drive (IOL/IOH)(Max)(mA): 20/-2; tpd @ Nom Voltage(Max)(ns): 15; DatasheetVersion: SDAS081C; PackageReference: D0016A; Supplier 1: Mouser; Supplier Part Number 1: 595-SN74AS158D; Supplier 2: Digi-Key; Supplier Part Number 2: SN74AS158D-ND; Input Type: TTL; Operating Temperature Range(C): 0 to 70; Type: Standard; Code_JEDEC: MS-012 variation AC; ComponentLink1Description: Manufacturer URL; ComponentLink1URL: http://www.ti.com/; ComponentLink2Description: Datasheet; ComponentLink2URL: http://www.ti.com/lit/ds/symlink/sn74as158.pdf; ComponentLink3Description: Package Specification; ComponentLink3URL: http://www.ti.com/lit/ml/mpds178g/mpds178g.pdf
footprint D0016A_N (SOIC, 16-Leads, Body 10x4mm, Pitch 1.27mm, IPC Medium Density)
footprint D0016A_M (SOIC, 16-Leads, Body 10x4mm, Pitch 1.27mm, IPC Low Density)
footprint D0016A_L (SOIC, 16-Leads, Body 10x4mm, Pitch 1.27mm, IPC High Density)
pins: 1 ~{A}/B (in), 2 1A (in), 3 1B (in), 4 1Y (out), 5 2A (in), 6 2B (in), 7 2Y (out), 8 GND (power), 9 3Y (out), 10 3B (in), 11 3A (in), 12 4Y (out), 13 4B (in), 14 4A (in), 15 ~{G} (in), 16 VCC (power)

## SN74AS158N
designator U?
Quadruple 1-of-2 Data Selectors/Multiplexers, N0016A, TUBE; Generic Part Number: SN74AS158; Manufacturer: Texas Instruments; PartNumber: SN74AS158N; VCC(Min)(V): 4.5; VCC(Max)(V): 5.5; Output Type: TTL; Function: Encoder/Multiplexer; ICC @ Nom Voltage(Max)(mA): 22.5; Bits(#): 2; F @ Nom Voltage(Max)(Mhz): 125; Configuration: 2：1; Channels(#): 4; Rating: Catalog; Technology Family: AS; Voltage(Nom)(V): 5; Schmitt Trigger: No; Output Drive (IOL/IOH)(Max)(mA): 20/-2; tpd @ Nom Voltage(Max)(ns): 15; DatasheetVersion: SDAS081C; PackageReference: N0016A; Supplier 1: Mouser; Supplier Part Number 1: 595-SN74AS158N; Supplier 2: Digi-Key; Supplier Part Number 2: SN74AS158N-ND; Input Type: TTL; Operating Temperature Range(C): 0 to 70; Type: Standard; Code_JEDEC: MS-001; ComponentLink1Description: Manufacturer URL; ComponentLink1URL: http://www.ti.com/; ComponentLink2Description: Datasheet; ComponentLink2URL: http://www.ti.com/lit/ds/symlink/sn74as158.pdf; ComponentLink3Description: Package Specification; ComponentLink3URL: http://www.ti.com/lit/ml/mpdi002c/mpdi002c.pdf
footprint N0016A (DIP, 16-Leads, Body 19.7x6.6mm, Pitch 2.54mm)
pins: 1 ~{A}/B (in), 2 1A (in), 3 1B (in), 4 1Y (out), 5 2A (in), 6 2B (in), 7 2Y (out), 8 GND (power), 9 3Y (out), 10 3B (in), 11 3A (in), 12 4Y (out), 13 4B (in), 14 4A (in), 15 ~{G} (in), 16 VCC (power)

## SN74AS158NSR
designator U?
Quadruple 1-of-2 Data Selectors/Multiplexers, NS0016A, LARGE T&R; Generic Part Number: SN74AS158; Manufacturer: Texas Instruments; PartNumber: SN74AS158NSR; VCC(Min)(V): 4.5; VCC(Max)(V): 5.5; Output Type: TTL; Function: Encoder/Multiplexer; ICC @ Nom Voltage(Max)(mA): 22.5; Bits(#): 2; F @ Nom Voltage(Max)(Mhz): 125; Configuration: 2：1; Channels(#): 4; Rating: Catalog; Technology Family: AS; Voltage(Nom)(V): 5; Schmitt Trigger: No; Output Drive (IOL/IOH)(Max)(mA): 20/-2; tpd @ Nom Voltage(Max)(ns): 15; DatasheetVersion: SDAS081C; PackageReference: NS0016A; Supplier 1: Mouser; Supplier Part Number 1: 595-SN74AS158NSR; Supplier 2: Digi-Key; Supplier Part Number 2: SN74AS158NSR-ND; Input Type: TTL; Operating Temperature Range(C): 0 to 70; Type: Standard; ComponentLink1Description: Manufacturer URL; ComponentLink1URL: http://www.ti.com/; ComponentLink2Description: Datasheet; ComponentLink2URL: http://www.ti.com/lit/ds/symlink/sn74as158.pdf; ComponentLink3Description: Package Specification; ComponentLink3URL: http://www.ti.com/lit/ml/msop002a/msop002a.pdf
footprint NS0016A_N (SOIC,16-Leads,Body 10.5x5.6mm,Pitch 1.27mm,IPC Medium Density)
footprint NS0016A_M (SOIC,16-Leads,Body 10.5x5.6mm,Pitch 1.27mm,IPC Low Density)
footprint NS0016A_L (SOIC,16-Leads,Body 10.5x5.6mm,Pitch 1.27mm,IPC High Density)
pins: 1 ~{A}/B (in), 2 1A (in), 3 1B (in), 4 1Y (out), 5 2A (in), 6 2B (in), 7 2Y (out), 8 GND (power), 9 3Y (out), 10 3B (in), 11 3A (in), 12 4Y (out), 13 4B (in), 14 4A (in), 15 ~{G} (in), 16 VCC (power)

## SN74AS161N
designator U?
Synchronous 4-Bit Binary Counters, N0016A, TUBE; Generic Part Number: SN74AS161; Manufacturer: Texas Instruments; PartNumber: SN74AS161N; VCC(Min)(V): 4.5; VCC(Max)(V): 5.5; Output Type: CMOS; Inputs: 1; ICC @ Nom Voltage(Max)(mA): 53; Input Type: TTL; Bits(#): 4; F @ Nom Voltage(Max)(Mhz): 125; Rating: Catalog; Technology Family: AS; Voltage(Nom)(V): 5; Schmitt Trigger: No; Output Drive (IOL/IOH)(Max)(mA): 20/-2; tpd @ Nom Voltage(Max)(ns): 16.5; DatasheetVersion: SDAS276A; PackageReference: N0016A; Supplier 1: Mouser; Supplier Part Number 1: 595-SN74AS161N; Supplier 2: Digi-Key; Supplier Part Number 2: 296-6336-5-ND; Function: Counter; Operating Temperature Range(C): 0 to 70; Type: Binary; Code_JEDEC: MS-001; ComponentLink1Description: Manufacturer URL; ComponentLink1URL: http://www.ti.com/; ComponentLink2Description: Datasheet; ComponentLink2URL: http://www.ti.com/lit/ds/symlink/sn74as161.pdf; ComponentLink3Description: Package Specification; ComponentLink3URL: http://www.ti.com/lit/ml/mpdi002c/mpdi002c.pdf
footprint N0016A (DIP, 16-Leads, Body 19.7x6.6mm, Pitch 2.54mm)
pins: 1 ~{CLR} (in), 2 CLK (in), 3 A (in), 4 B (in), 5 C (in), 6 D (in), 7 ENP (in), 8 GND (power), 9 ~{LOAD} (in), 10 ENT (in), 11 QD (out), 12 QC (out), 13 QB (out), 14 QA (out), 15 RCO (out), 16 VCC (power)

## SN74AS161NSR
designator U?
Synchronous 4-Bit Binary Counters, NS0016A, LARGE T&R; Generic Part Number: SN74AS161; Manufacturer: Texas Instruments; PartNumber: SN74AS161NSR; VCC(Min)(V): 4.5; VCC(Max)(V): 5.5; Output Type: CMOS; Inputs: 1; ICC @ Nom Voltage(Max)(mA): 53; Input Type: TTL; Bits(#): 4; F @ Nom Voltage(Max)(Mhz): 125; Rating: Catalog; Technology Family: AS; Voltage(Nom)(V): 5; Schmitt Trigger: No; Output Drive (IOL/IOH)(Max)(mA): 20/-2; tpd @ Nom Voltage(Max)(ns): 16.5; DatasheetVersion: SDAS276A; PackageReference: NS0016A; Supplier 1: Mouser; Supplier Part Number 1: 595-SN74AS161NSR; Supplier 2: Digi-Key; Supplier Part Number 2: 296-29910-2-ND; Supplier 3: Digi-Key; Supplier Part Number 3: 296-29910-1-ND; Supplier 4: Digi-Key; Supplier Part Number 4: 296-29910-6-ND; Function: Counter; Operating Temperature Range(C): 0 to 70; Type: Binary; ComponentLink1Description: Manufacturer URL; ComponentLink1URL: http://www.ti.com/; ComponentLink2Description: Datasheet; ComponentLink2URL: http://www.ti.com/lit/ds/symlink/sn74as161.pdf; ComponentLink3Description: Package Specification; ComponentLink3URL: http://www.ti.com/lit/ml/msop002a/msop002a.pdf
footprint NS0016A_N (SOIC,16-Leads,Body 10.5x5.6mm,Pitch 1.27mm,IPC Medium Density)
footprint NS0016A_M (SOIC,16-Leads,Body 10.5x5.6mm,Pitch 1.27mm,IPC Low Density)
footprint NS0016A_L (SOIC,16-Leads,Body 10.5x5.6mm,Pitch 1.27mm,IPC High Density)
pins: 1 ~{CLR} (in), 2 CLK (in), 3 A (in), 4 B (in), 5 C (in), 6 D (in), 7 ENP (in), 8 GND (power), 9 ~{LOAD} (in), 10 ENT (in), 11 QD (out), 12 QC (out), 13 QB (out), 14 QA (out), 15 RCO (out), 16 VCC (power)

## SN74AS163D
designator U?
Synchronous 4-Bit Binary Counters, D0016A, TUBE; Generic Part Number: SN74AS163; Manufacturer: Texas Instruments; PartNumber: SN74AS163D; VCC(Min)(V): 4.5; VCC(Max)(V): 5.5; Output Type: CMOS; Inputs: 1; ICC @ Nom Voltage(Max)(mA): 53; Input Type: TTL; Bits(#): 4; F @ Nom Voltage(Max)(Mhz): 125; Rating: Catalog; Technology Family: AS; Voltage(Nom)(V): 5; Schmitt Trigger: No; Output Drive (IOL/IOH)(Max)(mA): 20/-2; tpd @ Nom Voltage(Max)(ns): 16.5; DatasheetVersion: SDAS276A; PackageReference: D0016A; Supplier 1: Mouser; Supplier Part Number 1: 595-SN74AS163D; Supplier 2: Digi-Key; Supplier Part Number 2: SN74AS163D-ND; Function: Counter; Operating Temperature Range(C): 0 to 70; Type: Binary; Code_JEDEC: MS-012 variation AC; ComponentLink1Description: Manufacturer URL; ComponentLink1URL: http://www.ti.com/; ComponentLink2Description: Datasheet; ComponentLink2URL: http://www.ti.com/lit/ds/symlink/sn74as163.pdf; ComponentLink3Description: Package Specification; ComponentLink3URL: http://www.ti.com/lit/ml/mpds178g/mpds178g.pdf
footprint D0016A_N (SOIC, 16-Leads, Body 10x4mm, Pitch 1.27mm, IPC Medium Density)
footprint D0016A_M (SOIC, 16-Leads, Body 10x4mm, Pitch 1.27mm, IPC Low Density)
footprint D0016A_L (SOIC, 16-Leads, Body 10x4mm, Pitch 1.27mm, IPC High Density)
pins: 1 ~{CLR} (in), 2 CLK (in), 3 A (in), 4 B (in), 5 C (in), 6 D (in), 7 ENP (in), 8 GND (power), 9 ~{LOAD} (in), 10 ENT (in), 11 QD (out), 12 QC (out), 13 QB (out), 14 QA (out), 15 RCO (out), 16 VCC (power)

## SN74AS163N
designator U?
Synchronous 4-Bit Binary Counters, N0016A, TUBE; Generic Part Number: SN74AS163; Manufacturer: Texas Instruments; PartNumber: SN74AS163N; VCC(Min)(V): 4.5; VCC(Max)(V): 5.5; Output Type: CMOS; Inputs: 1; ICC @ Nom Voltage(Max)(mA): 53; Input Type: TTL; Bits(#): 4; F @ Nom Voltage(Max)(Mhz): 125; Rating: Catalog; Technology Family: AS; Voltage(Nom)(V): 5; Schmitt Trigger: No; Output Drive (IOL/IOH)(Max)(mA): 20/-2; tpd @ Nom Voltage(Max)(ns): 16.5; DatasheetVersion: SDAS276A; PackageReference: N0016A; Supplier 1: Mouser; Supplier Part Number 1: 595-SN74AS163N; Supplier 2: Digi-Key; Supplier Part Number 2: 296-6337-5-ND; Function: Counter; Operating Temperature Range(C): 0 to 70; Type: Binary; Code_JEDEC: MS-001; ComponentLink1Description: Manufacturer URL; ComponentLink1URL: http://www.ti.com/; ComponentLink2Description: Datasheet; ComponentLink2URL: http://www.ti.com/lit/ds/symlink/sn74as163.pdf; ComponentLink3Description: Package Specification; ComponentLink3URL: http://www.ti.com/lit/ml/mpdi002c/mpdi002c.pdf
footprint N0016A (DIP, 16-Leads, Body 19.7x6.6mm, Pitch 2.54mm)
pins: 1 ~{CLR} (in), 2 CLK (in), 3 A (in), 4 B (in), 5 C (in), 6 D (in), 7 ENP (in), 8 GND (power), 9 ~{LOAD} (in), 10 ENT (in), 11 QD (out), 12 QC (out), 13 QB (out), 14 QA (out), 15 RCO (out), 16 VCC (power)

## SN74AS169AN
designator U?
Synchronous 4-Bit Up/Down Binary Counters, N0016A, TUBE; Generic Part Number: SN74AS169A; Manufacturer: Texas Instruments; PartNumber: SN74AS169AN; VCC(Min)(V): 4.5; VCC(Max)(V): 5.5; Output Type: CMOS; Inputs: 1; ICC @ Nom Voltage(Max)(mA): 63; Input Type: TTL; Bits(#): 4; F @ Nom Voltage(Max)(Mhz): 125; Rating: Catalog; Technology Family: AS; Voltage(Nom)(V): 5; Schmitt Trigger: No; Output Drive (IOL/IOH)(Max)(mA): 20/-2; tpd @ Nom Voltage(Max)(ns): 16.5; DatasheetVersion: SDAS125B; PackageReference: N0016A; Supplier 1: Mouser; Supplier Part Number 1: 595-SN74AS169AN; Supplier 2: Digi-Key; Supplier Part Number 2: 296-6339-5-ND; Function: Counter; Operating Temperature Range(C): 0 to 70; Type: Binary; Code_JEDEC: MS-001; ComponentLink1Description: Manufacturer URL; ComponentLink1URL: http://www.ti.com/; ComponentLink2Description: Datasheet; ComponentLink2URL: http://www.ti.com/lit/ds/symlink/sn74as169a.pdf; ComponentLink3Description: Package Specification; ComponentLink3URL: http://www.ti.com/lit/ml/mpdi002c/mpdi002c.pdf
footprint N0016A (DIP, 16-Leads, Body 19.7x6.6mm, Pitch 2.54mm)
pins: 1 U/~{D} (in), 2 CLK (in), 3 A (in), 4 B (in), 5 C (in), 6 D (in), 7 ~{ENP} (in), 8 GND (power), 9 ~{LOAD} (in), 10 ~{ENT} (in), 11 QD (out), 12 QC (out), 13 QB (out), 14 QA (out), 15 ~{RCO} (out), 16 VCC (power)

## SN74AS253AD
designator U?
Dual 1-Of-4 Data Selectors/Multiplexers With 3-State Outputs, D0016A, TUBE; Generic Part Number: SN74AS253A; Manufacturer: Texas Instruments; PartNumber: SN74AS253AD; VCC(Min)(V): 4.5; VCC(Max)(V): 5.5; Output Type: TTL; Function: Encoder/Multiplexer; ICC @ Nom Voltage(Max)(mA): 14; Bits(#): 4; F @ Nom Voltage(Max)(Mhz): 125; Configuration: 4：1; Channels(#): 2; Rating: Catalog; Technology Family: AS; Voltage(Nom)(V): 5; Schmitt Trigger: No; Output Drive (IOL/IOH)(Max)(mA): 24/-2.6; tpd @ Nom Voltage(Max)(ns): 21; DatasheetVersion: SDAS216A; PackageReference: D0016A; Supplier 1: Mouser; Supplier Part Number 1: 595-SN74AS253AD; Supplier 2: Digi-Key; Supplier Part Number 2: 296-11843-5-ND; Input Type: TTL; Operating Temperature Range(C): 0 to 70; Type: 3-State Output; Code_JEDEC: MS-012 variation AC; ComponentLink1Description: Manufacturer URL; ComponentLink1URL: http://www.ti.com/; ComponentLink2Description: Datasheet; ComponentLink2URL: http://www.ti.com/lit/ds/symlink/sn74as253a.pdf; ComponentLink3Description: Package Specification; ComponentLink3URL: http://www.ti.com/lit/ml/mpds178g/mpds178g.pdf
footprint D0016A_N (SOIC, 16-Leads, Body 10x4mm, Pitch 1.27mm, IPC Medium Density)
footprint D0016A_M (SOIC, 16-Leads, Body 10x4mm, Pitch 1.27mm, IPC Low Density)
footprint D0016A_L (SOIC, 16-Leads, Body 10x4mm, Pitch 1.27mm, IPC High Density)
pins: 1 1~{OE} (in), 2 B (in), 3 1C3 (in), 4 1C2 (in), 5 1C1 (in), 6 1C0 (in), 7 1Y (hiz), 8 GND (power), 9 2Y (hiz), 10 2C0 (in), 11 2C1 (in), 12 2C2 (in), 13 2C3 (in), 14 A (in), 15 2~{OE} (in), 16 VCC (power)

## SN74AS257D
designator U?
Quadruple 2-Line to 1-Line Data Selectors/Multiplexers With 3-State Outputs, D0016A, TUBE; Generic Part Number: SN74AS257; Manufacturer: Texas Instruments; PartNumber: SN74AS257D; VCC(Min)(V): 4.5; VCC(Max)(V): 5.5; Output Type: TTL; Function: Encoder/Multiplexer; ICC @ Nom Voltage(Max)(mA): 31.9; Bits(#): 2; F @ Nom Voltage(Max)(Mhz): 125; Configuration: 2：1; Channels(#): 4; Rating: Catalog; Technology Family: AS; Voltage(Nom)(V): 5; Schmitt Trigger: No; Output Drive (IOL/IOH)(Max)(mA): 48/-15; tpd @ Nom Voltage(Max)(ns): 12; DatasheetVersion: SDAS124C; PackageReference: D0016A; Supplier 1: Mouser; Supplier Part Number 1: 595-SN74AS257D; Supplier 2: Digi-Key; Supplier Part Number 2: 296-33804-5-ND; Input Type: TTL; Operating Temperature Range(C): 0 to 70; Type: 3-State Output; Code_JEDEC: MS-012 variation AC; ComponentLink1Description: Manufacturer URL; ComponentLink1URL: http://www.ti.com/; ComponentLink2Description: Datasheet; ComponentLink2URL: http://www.ti.com/lit/ds/symlink/sn74as257.pdf; ComponentLink3Description: Package Specification; ComponentLink3URL: http://www.ti.com/lit/ml/mpds178g/mpds178g.pdf
footprint D0016A_N (SOIC, 16-Leads, Body 10x4mm, Pitch 1.27mm, IPC Medium Density)
footprint D0016A_M (SOIC, 16-Leads, Body 10x4mm, Pitch 1.27mm, IPC Low Density)
footprint D0016A_L (SOIC, 16-Leads, Body 10x4mm, Pitch 1.27mm, IPC High Density)
pins: 1 ~{A}/B (in), 2 1A (in), 3 1B (in), 4 1Y (hiz), 5 2A (in), 6 2B (in), 7 2Y (hiz), 8 GND (power), 9 3Y (hiz), 10 3B (in), 11 3A (in), 12 4Y (hiz), 13 4B (in), 14 4A (in), 15 ~{OE} (in), 16 VCC (power)

## SN74AS257N
designator U?
Quadruple 2-Line to 1-Line Data Selectors/Multiplexers With 3-State Outputs, N0016A, TUBE; Generic Part Number: SN74AS257; Manufacturer: Texas Instruments; PartNumber: SN74AS257N; VCC(Min)(V): 4.5; VCC(Max)(V): 5.5; Output Type: TTL; Function: Encoder/Multiplexer; ICC @ Nom Voltage(Max)(mA): 31.9; Bits(#): 2; F @ Nom Voltage(Max)(Mhz): 125; Configuration: 2：1; Channels(#): 4; Rating: Catalog; Technology Family: AS; Voltage(Nom)(V): 5; Schmitt Trigger: No; Output Drive (IOL/IOH)(Max)(mA): 48/-15; tpd @ Nom Voltage(Max)(ns): 12; DatasheetVersion: SDAS124C; PackageReference: N0016A; Supplier 1: Mouser; Supplier Part Number 1: 595-SN74AS257N; Supplier 2: Digi-Key; Supplier Part Number 2: 296-33805-5-ND; Input Type: TTL; Operating Temperature Range(C): 0 to 70; Type: 3-State Output; Code_JEDEC: MS-001; ComponentLink1Description: Manufacturer URL; ComponentLink1URL: http://www.ti.com/; ComponentLink2Description: Datasheet; ComponentLink2URL: http://www.ti.com/lit/ds/symlink/sn74as257.pdf; ComponentLink3Description: Package Specification; ComponentLink3URL: http://www.ti.com/lit/ml/mpdi002c/mpdi002c.pdf
footprint N0016A (DIP, 16-Leads, Body 19.7x6.6mm, Pitch 2.54mm)
pins: 1 ~{A}/B (in), 2 1A (in), 3 1B (in), 4 1Y (hiz), 5 2A (in), 6 2B (in), 7 2Y (hiz), 8 GND (power), 9 3Y (hiz), 10 3B (in), 11 3A (in), 12 4Y (hiz), 13 4B (in), 14 4A (in), 15 ~{OE} (in), 16 VCC (power)

## SN74AS257NSR
designator U?
Quadruple 2-Line to 1-Line Data Selectors/Multiplexers With 3-State Outputs, NS0016A, LARGE T&R; Generic Part Number: SN74AS257; Manufacturer: Texas Instruments; PartNumber: SN74AS257NSR; VCC(Min)(V): 4.5; VCC(Max)(V): 5.5; Output Type: TTL; Function: Encoder/Multiplexer; ICC @ Nom Voltage(Max)(mA): 31.9; Bits(#): 2; F @ Nom Voltage(Max)(Mhz): 125; Configuration: 2：1; Channels(#): 4; Rating: Catalog; Technology Family: AS; Voltage(Nom)(V): 5; Schmitt Trigger: No; Output Drive (IOL/IOH)(Max)(mA): 48/-15; tpd @ Nom Voltage(Max)(ns): 12; DatasheetVersion: SDAS124C; PackageReference: NS0016A; Supplier 1: Mouser; Supplier Part Number 1: 595-SN74AS257NSR; Supplier 2: Digi-Key; Supplier Part Number 2: 296-29128-2-ND; Supplier 3: Digi-Key; Supplier Part Number 3: 296-29128-1-ND; Supplier 4: Digi-Key; Supplier Part Number 4: 296-29128-6-ND; Input Type: TTL; Operating Temperature Range(C): 0 to 70; Type: 3-State Output; ComponentLink1Description: Manufacturer URL; ComponentLink1URL: http://www.ti.com/; ComponentLink2Description: Datasheet; ComponentLink2URL: http://www.ti.com/lit/ds/symlink/sn74as257.pdf; ComponentLink3Description: Package Specification; ComponentLink3URL: http://www.ti.com/lit/ml/msop002a/msop002a.pdf
footprint NS0016A_N (SOIC,16-Leads,Body 10.5x5.6mm,Pitch 1.27mm,IPC Medium Density)
footprint NS0016A_M (SOIC,16-Leads,Body 10.5x5.6mm,Pitch 1.27mm,IPC Low Density)
footprint NS0016A_L (SOIC,16-Leads,Body 10.5x5.6mm,Pitch 1.27mm,IPC High Density)
pins: 1 ~{A}/B (in), 2 1A (in), 3 1B (in), 4 1Y (hiz), 5 2A (in), 6 2B (in), 7 2Y (hiz), 8 GND (power), 9 3Y (hiz), 10 3B (in), 11 3A (in), 12 4Y (hiz), 13 4B (in), 14 4A (in), 15 ~{OE} (in), 16 VCC (power)

## SN74AS258N
designator U?
Quadruple 2-Line to 1-Line Data Selectors/Multiplexers With 3-State Outputs, N0016A, TUBE; Generic Part Number: SN74AS258; Manufacturer: Texas Instruments; PartNumber: SN74AS258N; VCC(Min)(V): 4.5; VCC(Max)(V): 5.5; Output Type: TTL; Function: Encoder/Multiplexer; ICC @ Nom Voltage(Max)(mA): 25.2; Bits(#): 2; F @ Nom Voltage(Max)(Mhz): 125; Configuration: 2：1; Channels(#): 4; Rating: Catalog; Technology Family: AS; Voltage(Nom)(V): 5; Schmitt Trigger: No; Output Drive (IOL/IOH)(Max)(mA): 48/-15; tpd @ Nom Voltage(Max)(ns): 8; DatasheetVersion: SDAS124C; PackageReference: N0016A; Supplier 1: Mouser; Supplier Part Number 1: 595-SN74AS258N; Supplier 2: Digi-Key; Supplier Part Number 2: 296-33806-5-ND; Input Type: TTL; Operating Temperature Range(C): 0 to 70; Type: 3-State Output; Code_JEDEC: MS-001; ComponentLink1Description: Manufacturer URL; ComponentLink1URL: http://www.ti.com/; ComponentLink2Description: Datasheet; ComponentLink2URL: http://www.ti.com/lit/ds/symlink/sn74as258.pdf; ComponentLink3Description: Package Specification; ComponentLink3URL: http://www.ti.com/lit/ml/mpdi002c/mpdi002c.pdf
footprint N0016A (DIP, 16-Leads, Body 19.7x6.6mm, Pitch 2.54mm)
pins: 1 ~{A}/B (in), 2 1A (in), 3 1B (in), 4 1Y (hiz), 5 2A (in), 6 2B (in), 7 2Y (hiz), 8 GND (power), 9 3Y (hiz), 10 3B (in), 11 3A (in), 12 4Y (hiz), 13 4B (in), 14 4A (in), 15 ~{OE} (in), 16 VCC (power)

## SN74AS280D
designator U?
9-Bit Parity Generators/Checkers, D0014A, TUBE; Generic Part Number: SN74AS280; Manufacturer: Texas Instruments; PartNumber: SN74AS280D; VCC(Min)(V): 4.5; VCC(Max)(V): 5.5; Output Type: CMOS; Inputs: 9; ICC @ Nom Voltage(Max)(mA): 35; Input Type: TTL; Bits(#): 2; F @ Nom Voltage(Max)(Mhz): 125; Rating: Catalog; Technology Family: AS; Voltage(Nom)(V): 5; Schmitt Trigger: No; Output Drive (IOL/IOH)(Max)(mA): 20/-2; tpd @ Nom Voltage(Max)(ns): 12; DatasheetVersion: SDAS038C; PackageReference: D0014A; Supplier 1: Mouser; Supplier Part Number 1: 595-SN74AS280D; Supplier 2: Digi-Key; Supplier Part Number 2: SN74AS280D-ND; Function: Parity; Operating Temperature Range(C): 0 to 70; Type: Other; Code_JEDEC: MS-012; ComponentLink1Description: Manufacturer URL; ComponentLink1URL: http://www.ti.com/; ComponentLink2Description: Datasheet; ComponentLink2URL: http://www.ti.com/lit/ds/symlink/sn74as280.pdf; ComponentLink3Description: Package Specification; ComponentLink3URL: http://www.ti.com/lit/ml/mpds177g/mpds177g.pdf
footprint D0014A_N (SOIC, 14-Leads, Body 8.75x4mm, Pitch 1.27mm, IPC Medium Density)
footprint D0014A_M (SOIC, 14-Leads, Body 8.75x4mm, Pitch 1.27mm, IPC Low Density)
footprint D0014A_L (SOIC, 14-Leads, Body 8.75x4mm, Pitch 1.27mm, IPC High Density)
pins: 1 G (in), 2 H (in), 3 NC, 4 I (in), 5 ΣEVEN (out), 6 ΣODD (out), 7 GND (power), 8 A (in), 9 B (in), 10 C (in), 11 D (in), 12 E (in), 13 F (in), 14 VCC (power)